# EAGLE library part MAX1795 (library m_vreg)
MAX1795, MAX1796, MAX1797 Low Supply Current, Step-Up DC-DC Converters with True-Shutdown Datasheet link: http://www.maxim-ic.com/datasheet/index.mvp/id/2377 Added 6/10/2012
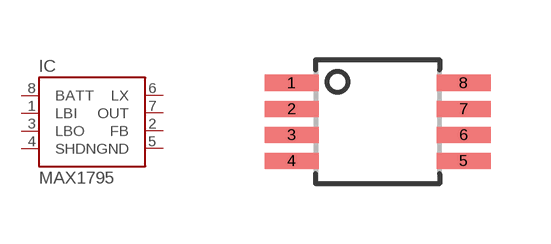
[diagram p8: symbol with the pads of µMAX; footprint µMAX]

Designator prefix IC

## MAX1795 (MANUF: Maxim; PARTNUM: MAX179xEUA)  [µMAX]
1  LBI  pas
2  FB  pas
3  LBO  pas
4  SHDN  pas
5  GND  pas
6  LX  pas
7  OUT  pas
8  BATT  pas

## Footprint µMAX (pad centres in mm)
µMax 8 Package Pakage outline based on Maxim document 21-0036 Rev. I Land pattern based on Maxim document 90-0092 Rev. B Added 6/6/2012
smd 1.35 x 0.4: 1 -2.15,0.975; 2 -2.15,0.325; 3 -2.15,-0.325; 4 -2.15,-0.975; 5 2.15,-0.975; 6 2.15,-0.325; 7 2.15,0.325; 8 2.15,0.975